# EAGLE library part ZIF28 (library lcd_displays)
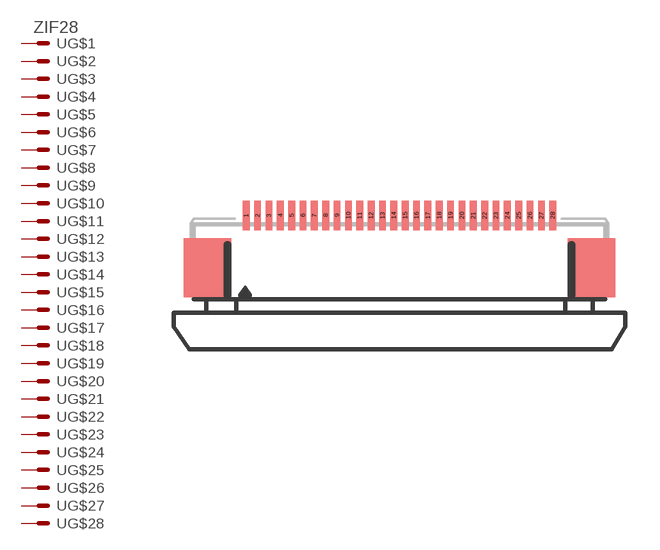
[diagram p6: symbol with the pads of SAMTEC-ZF5-28; footprint SAMTEC-ZF5-28]

Designator prefix -; gates G$1=MV G$2=M G$3=M G$4=M G$5=M G$6=M G$7=M G$8=M G$9=M G$10=M G$11=M G$12=M G$13=M G$14=M G$15=M G$16=M G$17=M G$18=M G$19=M G$20=M G$21=M G$22=M G$23=M G$24=M G$25=M G$26=M G$27=M G$28=M

## ZIF28  [SAMTEC-ZF5-28]
1  G$1:S  pas
2  G$2:S  pas
3  G$3:S  pas
4  G$4:S  pas
5  G$5:S  pas
6  G$6:S  pas
7  G$7:S  pas
8  G$8:S  pas
9  G$9:S  pas
10  G$10:S  pas
11  G$11:S  pas
12  G$12:S  pas
13  G$13:S  pas
14  G$14:S  pas
15  G$15:S  pas
16  G$16:S  pas
17  G$17:S  pas
18  G$18:S  pas
19  G$19:S  pas
20  G$20:S  pas
21  G$21:S  pas
22  G$22:S  pas
23  G$23:S  pas
24  G$24:S  pas
25  G$25:S  pas
26  G$26:S  pas
27  G$27:S  pas
28  G$28:S  pas

## Footprint SAMTEC-ZF5-28 (pad centres in mm)
FFC/FPC-to-Board 0.50mm (.020") SMT Top Contact Right Angle, ZIF, Samtec ZF5 Source: http://www.samtec.com
smd 0.3 x 1.3: 1 -6.75,2.3; 2 -6.25,2.3; 3 -5.75,2.3; 4 -5.25,2.3; 5 -4.75,2.3; 6 -4.25,2.3; 7 -3.75,2.3; 8 -3.25,2.3; 9 -2.75,2.3; 10 -2.25,2.3; 11 -1.75,2.3; 12 -1.25,2.3; 13 -0.75,2.3; 14 -0.25,2.3; 15 0.25,2.3; 16 0.75,2.3; 17 1.25,2.3; 18 1.75,2.3; 19 2.25,2.3; 20 2.75,2.3; 21 3.25,2.3; 22 3.75,2.3; 23 4.25,2.3; 24 4.75,2.3; 25 5.25,2.3; 26 5.75,2.3; 27 6.25,2.3; 28 6.75,2.3